# Altium footprint library DFN5_5x6.PcbLib: 1 footprints
Each footprint in its own frame and in the unit in brackets; x right, y up, seen from the top. Pads: shape width x height; smd on the part's side, far side on the other; paste and mask are expansions set on the pad; w line width, h text height; cw(c..) or ccw(c..) is an arc to the next point about the centre after c.
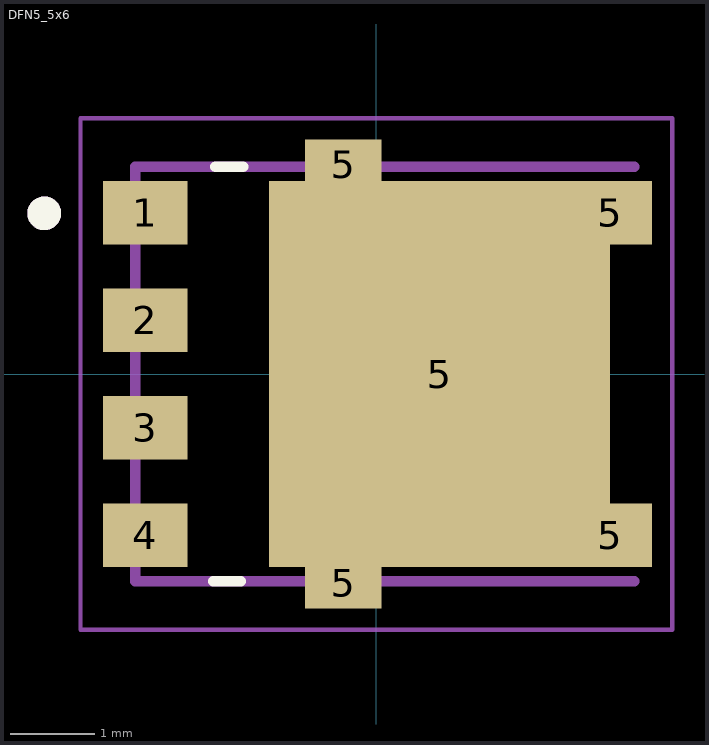
[diagram p0: the footprint, top view; thin cyan lines are the x and y axes]

## DFN5_5x6 [mm]
pads (9):
  rect 1x0.75 smd: 1(-2.732,1.905) 2(-2.732,0.635) 3(-2.732,-0.635) 4(-2.732,-1.905)
  rect 0.905x0.595 smd: 5(-0.389,-2.475) 5(-0.389,2.475)
  rect 4.035x4.56 smd: 5(0.75,0)
  rect 0.99x0.75 smd: 5(2.768,-1.905) 5(2.768,1.905)
Top Overlay:
  circle w0.2: c-3.925,1.9 r0.1
  lines w0.127: -1.927,-2.45 -1.603,-2.45 ; -1.9,2.45 -1.575,2.45
Mechanical 13:
  circle w0.2: c-3.925,1.9 r0.1
  lines w0.127: 3.05,-2.45 -2.85,-2.45 -2.85,2.45 3.05,2.45
Mechanical 15:
  lines w0.05: -3.498,-3.025 3.5,-3.025 3.5,3.025 -3.498,3.025 -3.498,-3.025
3D body "step_temp.STEP": height 1.1, standoff 0, extent -3.025,-2.575 3.125,2.575